# Altium schematic symbol library Rele.SchLib: 2 symbols
Pins are listed as number, name and electrical type; pins without a type are passive.

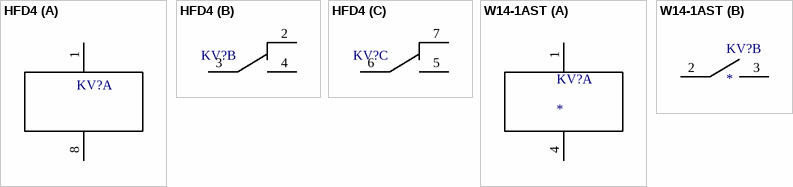
[diagram p0: symbols HFD4 to W14-1AST]

## HFD4
designator KV?  (value not drawn)
footprint PCBComponent_1
part A pins: 1, 8
part B pins: 2, 3, 4
part C pins: 5, 6, 7

## W14-1AST
designator KV?
footprint W14-1AST
part A pins: 1, 4 2
part B pins: 2, 3